# EAGLE library part _OLD_PC104 (library Cubesat)
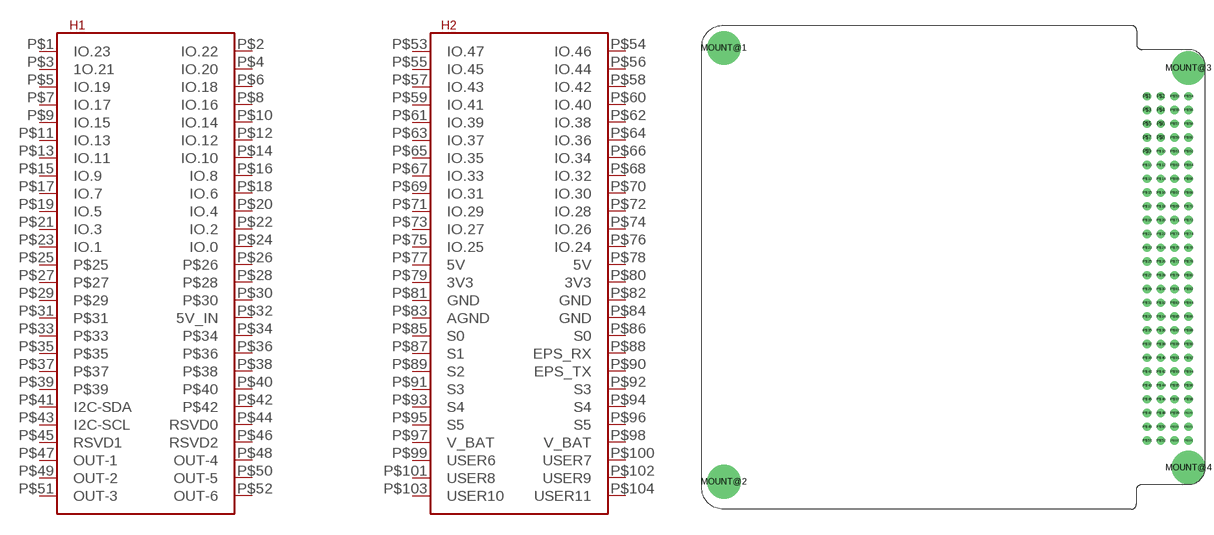
[diagram p0: symbol with the pads of _OLD_PC104; footprint _OLD_PC104]

Designator prefix -

## _OLD_PC104  [_OLD_PC104]
P$1  IO.23
P$2  IO.22
P$3  1O.21
P$4  IO.20
P$5  IO.19
P$6  IO.18
P$7  IO.17
P$8  IO.16
P$9  IO.15
P$10  IO.14
P$11  IO.13
P$12  IO.12
P$13  IO.11
P$14  IO.10
P$15  IO.9
P$16  IO.8
P$17  IO.7
P$18  IO.6
P$19  IO.5
P$20  IO.4
P$21  IO.3
P$22  IO.2
P$23  IO.1
P$24  IO.0
P$25  P$25
P$26  P$26
P$27  P$27
P$28  P$28
P$29  P$29
P$30  P$30
P$31  P$31
P$32  5V_IN
P$33  P$33
P$34  P$34
P$35  P$35
P$36  P$36
P$37  P$37
P$38  P$38
P$39  P$39
P$40  P$40
P$41  I2C-SDA
P$42  P$42
P$43  I2C-SCL
P$44  RSVD0
P$45  RSVD1
P$46  RSVD2
P$47  OUT-1
P$48  OUT-4
P$49  OUT-2
P$50  OUT-5
P$51  OUT-3
P$52  OUT-6
P$53  IO.47
P$54  IO.46
P$55  IO.45
P$56  IO.44
P$57  IO.43
P$58  IO.42
P$59  IO.41
P$60  IO.40
P$61  IO.39
P$62  IO.38
P$63  IO.37
P$64  IO.36
P$65  IO.35
P$66  IO.34
P$67  IO.33
P$68  IO.32
P$69  IO.31
P$70  IO.30
P$71  IO.29
P$72  IO.28
P$73  IO.27
P$74  IO.26
P$75  IO.25
P$76  IO.24
P$77  5V
P$78  5V
P$79  3V3
P$80  3V3
P$81  GND
P$82  GND
P$83  AGND
P$84  GND
P$85  S0
P$86  S0
P$87  S1
P$88  EPS_RX
P$89  S2
P$90  EPS_TX
P$91  S3
P$92  S3
P$93  S4
P$94  S4
P$95  S5
P$96  S5
P$97  V_BAT
P$98  V_BAT
P$99  USER6
P$100  USER7
P$101  USER8
P$102  USER9
P$103  USER10
P$104  USER11

## Footprint _OLD_PC104 (pad centres in mm)
drill 3.2 pad 6.2: MOUNT@1 4.1,85.1; MOUNT@2 4.1,5.1; MOUNT@3 89.8,81.4; MOUNT@4 89.8,7.7
drill 1.016: P$1 82.151,76.2; P$2 84.691,76.2; P$3 82.151,73.66; P$4 84.691,73.66; P$5 82.151,71.12; P$6 84.691,71.12; P$7 82.151,68.58; P$8 84.691,68.58; P$9 82.151,66.04; P$10 84.691,66.04; P$11 82.151,63.5; P$12 84.691,63.5; P$13 82.151,60.96; P$14 84.691,60.96; P$15 82.151,58.42; P$16 84.691,58.42; P$17 82.151,55.88; P$18 84.691,55.88; P$19 82.151,53.34; P$20 84.691,53.34; P$21 82.151,50.8; P$22 84.691,50.8; P$23 82.151,48.26; P$24 84.691,48.26; P$25 82.151,45.72; P$26 84.691,45.72; P$27 82.151,43.18; P$28 84.691,43.18; P$29 82.151,40.64; P$30 84.691,40.64; P$31 82.151,38.1; P$32 84.691,38.1; P$33 82.151,35.56; P$34 84.691,35.56; P$35 82.151,33.02; P$36 84.691,33.02; P$37 82.151,30.48; P$38 84.691,30.48; P$39 82.151,27.94; P$40 84.691,27.94; P$41 82.151,25.4; P$42 84.691,25.4; P$43 82.151,22.86; P$44 84.691,22.86; P$45 82.151,20.32; P$46 84.691,20.32; P$47 82.151,17.78; P$48 84.691,17.78; P$49 82.151,15.24; P$50 84.691,15.24; P$51 82.151,12.7; P$52 84.691,12.7; P$53 87.231,76.2; P$54 89.771,76.2; P$55 87.231,73.66; P$56 89.771,73.66; P$57 87.231,71.12; P$58 89.771,71.12; P$59 87.231,68.58; P$60 89.771,68.58; P$61 87.231,66.04; P$62 89.771,66.04; P$63 87.231,63.5; P$64 89.771,63.5; P$65 87.231,60.96; P$66 89.771,60.96; P$67 87.231,58.42; P$68 89.771,58.42; P$69 87.231,55.88; P$70 89.771,55.88; P$71 87.231,53.34; P$72 89.771,53.34; P$73 87.231,50.8; P$74 89.771,50.8; P$75 87.231,48.26; P$76 89.771,48.26; P$77 87.231,45.72; P$78 89.771,45.72; P$79 87.231,43.18; P$80 89.771,43.18; P$81 87.231,40.64; P$82 89.771,40.64; P$83 87.231,38.1; P$84 89.771,38.1; P$85 87.231,35.56; P$86 89.771,35.56; P$87 87.231,33.02; P$88 89.771,33.02; P$89 87.231,30.48; P$90 89.771,30.48; P$91 87.231,27.94; P$92 89.771,27.94; P$93 87.231,25.4; P$94 89.771,25.4; P$95 87.231,22.86; P$96 89.771,22.86; P$97 87.231,20.32; P$98 89.771,20.32; P$99 87.231,17.78; P$100 89.771,17.78; P$101 87.231,15.24; P$102 89.771,15.24; P$103 87.231,12.7; P$104 89.771,12.7